# EAGLE library part LIS3DH (library bschulz)
LIS3DH - Ultra-low-power High-performance 3-axis Digital Accelerometer (I2C/SPI) Characteristics: Vcc: 1.71V ~ 3.6V Acceleration Range: ±2g, ±4g, ±8g, ±16g Sensitivity: 1000 ~ 83 LSB/g (±2g ~ ± 16g) Bandwidth: 0.5Hz ~ 625kHz Operating Temperature: -40°C to 85°C Digikey: 497-10613-1-ND <https://www.digikey.com/product-detail/en/stmicroelectronics/LIS3DHTR/497-10613-1-ND/2334355>
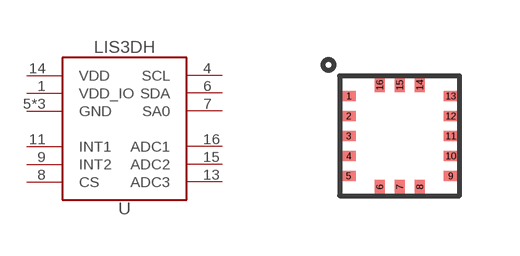
[diagram p103: symbol with the pads of LGA-16; footprint LGA-16]

Designator prefix U

## LIS3DHLGA (DIGIKEY: 497-10613-1-ND; MF: ST; MPN: LIS3DHTR)  [LGA-16]
1  VDD_IO
4  SCL
5  GND
6  SDA
7  SA0
8  CS
9  INT2
10  GND
11  INT1
12  GND
13  ADC3
14  VDD
15  ADC2
16  ADC1

## Footprint LGA-16 (pad centres in mm)
16 Pin LGA package (3x3mm) for accelerometer Ref datasheet <https://www.mouser.com/pdfdocs/Kionix_TN_PCB_Design.pdf>
smd 0.35 x 0.25: 1 -1.275,1; 2 -1.275,0.5; 3 -1.275,0; 4 -1.275,-0.5; 5 -1.275,-1; 9 1.275,-1; 10 1.275,-0.5; 11 1.275,0; 12 1.275,0.5; 13 1.275,1
smd 0.25 x 0.35: 6 -0.5,-1.275; 7 0,-1.275; 8 0.5,-1.275; 14 0.5,1.275; 15 0,1.275; 16 -0.5,1.275